# Altium integrated library num_one.IntLib: 21 symbols
Pins are listed as number, name and electrical type; pins without a type are passive.

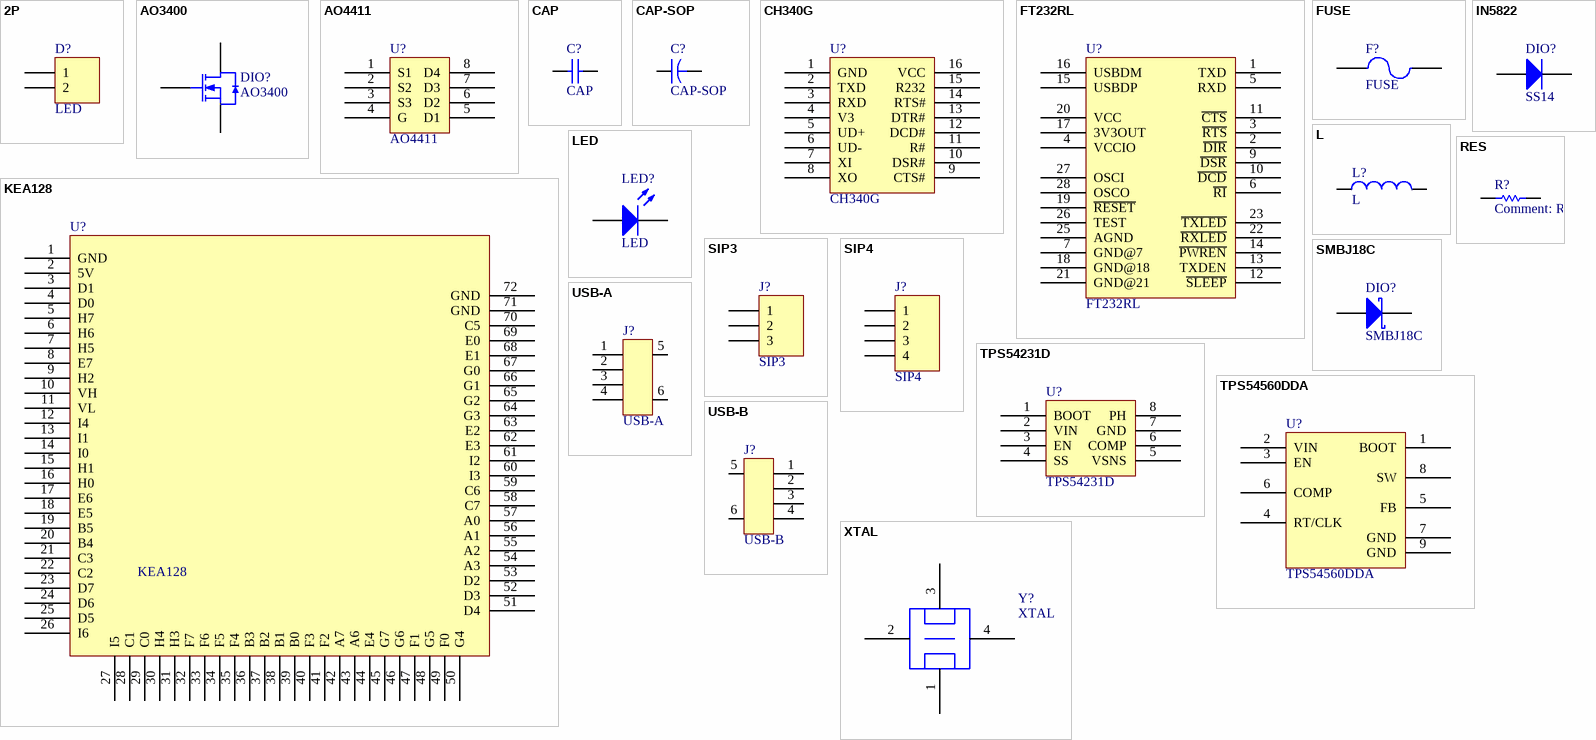
[diagram p0: symbols 2P to XTAL]

## 2P
designator D?, comment LED
footprint 2.0-2P
footprint 3.5-2P
footprint 4.2-2P
footprint 5.08-2P
footprint CN-2(2.54)
pins: 1, 2

## AO3400
designator DIO?
footprint AO3400
pins: 1 G, 2 S, 3 D

## AO4411
designator U?
footprint AO4411
pins: 1 S1, 2 S2, 3 S3, 4 G, 5 D1, 6 D2, 7 D3, 8 D4

## CAP
designator C?
footprint 0805C
pins: 1, 2

## CAP-SOP
designator C?
footprint S-C6.6-H7.2
pins: A, K

## CH340G
designator U?
footprint SO-16_CH340
pins: 1 GND, 2 TXD, 3 RXD, 4 V3, 5 UD+, 6 UD-, 7 XI, 8 XO, 9 CTS#, 10 DSR#, 11 R#, 12 DCD#, 13 DTR#, 14 RTS#, 15 R232, 16 VCC

## FT232RL
designator U?
footprint FT232RL
pins: 1 TXD, 2 ~{DIR}, 3 ~{RTS}, 4 VCCIO, 5 RXD, 6 ~{RI}, 7 GND@7, 9 ~{DSR}, 10 ~{DCD}, 11 ~{CTS}, 12 ~{SLEEP}, 13 TXDEN, 14 ~{PWREN}, 15 USBDP, 16 USBDM, 17 3V3OUT, 18 GND@18, 19 ~{RESET}, 20 VCC, 21 GND@21, 22 ~{RXLED}, 23 ~{TXLED}, 25 AGND, 26 TEST, 27 OSCI, 28 OSCO

## FUSE
designator F?
footprint FUSE
pins: 1, 2

## IN5822
designator DIO?, comment SS14
footprint SMA
footprint SMB-B
footprint SOD-323
pins: A, K

## KEA128
designator U?
footprint KEA128
pins: 1 GND, 2 5V, 3 D1, 4 D0, 5 H7, 6 H6, 7 H5, 8 E7, 9 H2, 10 VH, 11 VL, 12 I4, 13 I1, 14 I0, 15 H1, 16 H0, 17 E6, 18 E5, 19 B5, 20 B4, 21 C3, 22 C2, 23 D7, 24 D6, 25 D5, 26 I6, 27 I5, 28 C1, 29 C0, 30 H4, 31 H3, 32 F7, 33 F6, 34 F5, 35 F4, 36 B3, 37 B2, 38 B1, 39 B0, 40 F3, 41 F2, 42 A7, 43 A6, 44 E4, 45 G7, 46 G6, 47 F1, 48 G5, 49 F0, 50 G4, 51 D4, 52 D3, 53 D2, 54 A3, 55 A2, 56 A1, 57 A0, 58 C7, 59 C6, 60 I3, 61 I2, 62 E3, 63 E2, 64 G3, 65 G2, 66 G1, 67 G0, 68 E1, 69 E0, 70 C5, 71 GND, 72 GND

## L
designator L?
footprint L-CD54
footprint L-7X7S
pins: 1, 2

## LED
designator LED?
footprint 0805D
pins: A, K

## RES
designator R?
footprint 0805_RES
pins: 1, 2

## SIP3
designator J?
footprint 2.54-SIP3
pins: 1, 2, 3

## SIP4
designator J?
footprint 2.54-SIP4
pins: 1, 2, 3, 4

## SMBJ18C
designator DIO?
footprint SMA
pins: A, K

## TPS54231D
designator U?
footprint SOP8
pins: 1 BOOT, 2 VIN, 3 EN, 4 SS, 5 VSNS, 6 COMP, 7 GND, 8 PH

## TPS54560DDA
designator U?
footprint TPS54560DDA
pins: 1 BOOT, 2 VIN, 3 EN, 4 RT/CLK, 5 FB, 6 COMP, 7 GND, 8 SW, 9 GND

## USB-A
designator J?
footprint USB/A
pins: 1, 2, 3, 4, 5, 6

## USB-B
designator J?
footprint USB/B
pins: 1, 2, 3, 4, 5, 6

## XTAL
designator Y?
footprint XTAL-3225
pins: 1, 2, 3, 4